# Altium schematic symbol library LEDs.SchLib: 2 symbols
Pins are listed as number, name and electrical type; pins without a type are passive.

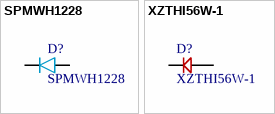
[diagram p0: symbols SPMWH1228 to XZTHI56W-1]

## SPMWH1228
designator D?
3V/0.5W white LED, 2.8mm x 3.5mm; PNP-Nzl: 3; PNP-dx: 0; PNP-X: 2.8; PNP-Y: 3.2; PNP-A: 90; PNP-Thk: 0.65; PNP-Lv: 1; PNP-TS: 70; PNP-Type: chi; PNP-FeedType: Tape; PNP-TapeWidth: 8; PNP-PlacePriority: 2; PNP-da: 550; PNP-dy: 0; PNP-Pt: 0; PNP-W: 0; PNP-Level: 1; PNP-Voff: 0; PNP-TapeIndex: 1; Supplier 2: Digi-Key; Supplier Part Number 2: 1510-1428-1-ND; Supplier 3: Digi-Key; Supplier Part Number 3: 1510-1429-1-ND; Supplier 1: Arrow
footprint SPMWH1228
pins: 1 A, 2 C

## XZTHI56W-1
designator D?
Infrared (IR) Emitter 880nm 1.3V 50mA 1mW/sr @ 20mA 30° 2-SMD, No Lead; PNP-Nzl: 2; PNP-dx: 0; PNP-X: 2.00; PNP-Y: 1.25; PNP-Thk: 0.9; PNP-Lv: 26; PNP-TS: 70; PNP-Level: 1; PNP-Type: CAP; PNP-FeedType: Tape; PNP-TapeWidth: 8; PNP-dy: 0; PNP-Pt: 0; PNP-W: 0; PNP-Voff: 0; PNP-PlacePriority: 1; PNP-A: 0; PNP-TapeIndex: 1; PNP-da: 0; Supplier 1: Digi-Key; Supplier Part Number 1: 1497-1205-1-ND
footprint XZTHI56W-1
pins: A, C